# EAGLE library part MB82B85PJ (library micro-fujitsu)
MICROCONTROLLER/MEMORY DEVICE
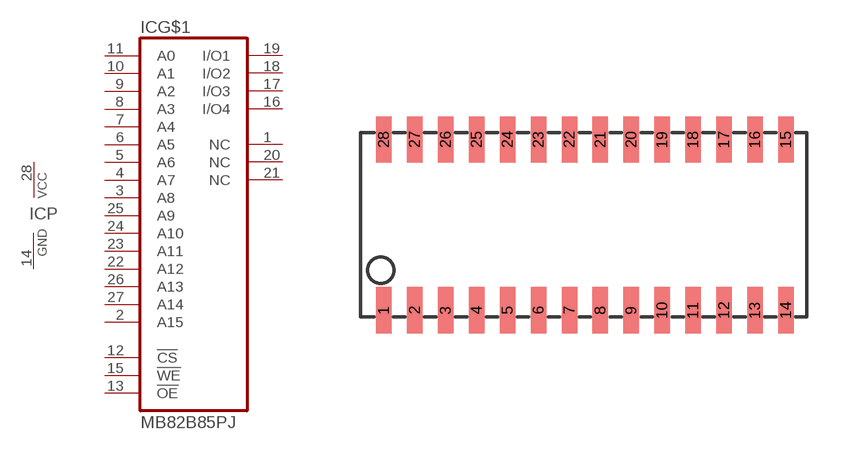
[diagram p47: symbol with the pads of SOJ28-3; footprint SOJ28-3]

Designator prefix IC; gates G$1=MB82B85 P=VCC-GND

## MB82B85PJ  [SOJ28-3]
1  G$1:NC  nc
2  G$1:A15  in
3  G$1:A8  in
4  G$1:A7  in
5  G$1:A6  in
6  G$1:A5  in
7  G$1:A4  in
8  G$1:A3  in
9  G$1:A2  in
10  G$1:A1  in
11  G$1:A0  in
12  G$1:!CS  in
13  G$1:!OE  in
14  P:GND  pwr
15  G$1:!WE  in
16  G$1:I/O4  nc
17  G$1:I/O3
18  G$1:I/O2
19  G$1:I/O1
20  G$1:NC  nc
21  G$1:NC  nc
22  G$1:A12  in
23  G$1:A11  in
24  G$1:A10  in
25  G$1:A9  in
26  G$1:A13  in
27  G$1:A14  in
28  P:VCC  pwr

## Footprint SOJ28-3 (pad centres in mm)
Small Outline J-Bend
smd 0.635 x 1.905: 1 -8.255,-3.505; 2 -6.985,-3.505; 3 -5.715,-3.505; 4 -4.445,-3.505; 5 -3.175,-3.505; 6 -1.905,-3.505; 7 -0.635,-3.505; 8 0.635,-3.505; 9 1.905,-3.505; 10 3.175,-3.505; 11 4.445,-3.505; 12 5.715,-3.505; 13 6.985,-3.505; 14 8.255,-3.505; 15 8.255,3.505; 16 6.985,3.505; 17 5.715,3.505; 18 4.445,3.505; 19 3.175,3.505; 20 1.905,3.505; 21 0.635,3.505; 22 -0.635,3.505; 23 -1.905,3.505; 24 -3.175,3.505; 25 -4.445,3.505; 26 -5.715,3.505; 27 -6.985,3.505; 28 -8.255,3.505